# Altium schematic symbol library Button-Sensor.SchLib: 5 symbols
Pins are listed as number, name and electrical type; pins without a type are passive.

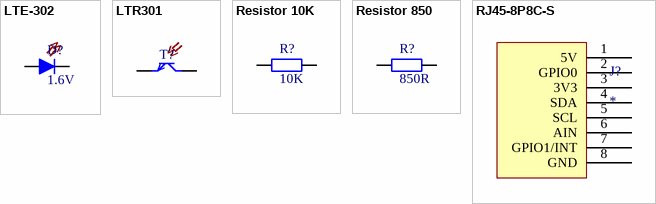
[diagram p0: symbols LTE-302 to RJ45-8P8C-S]

## LTE-302
designator D?, comment 1.6V
IR LED 940nm; Mouser no.: 859-LTE-302; V forward: 1.6V
footprint LTE302
pins: 1 A, 2 K

## LTR301
designator T?  (value not drawn)
Phototransistor 940nm; Mouser no.: 859-LTR-301
footprint LTR301; pin to pad 1>2 2>1
pins: 1 C, 2 E

## Resistor 10K
designator R?, comment 10K
Value: 10K
footprint RESC1608X06M (Chip Resistor, 2-Leads, Body 1,60x0,80mm, IPC Low Density)
pins: 1, 2

## Resistor 850
designator R?, comment 850R
Value: 850R
footprint RESC1608X06M (Chip Resistor, 2-Leads, Body 1,60x0,80mm, IPC Low Density)
pins: 1, 2

## RJ45-8P8C-S
designator J?
Datasheet: /Robotics%20Platform/Datasheets/Connectors/5721-8P8C-全塑有耳.pdf
footprint RJ45-8P8C
pins: 1 5V, 2 GPIO0, 3 3V3, 4 SDA, 5 SCL, 6 AIN, 7 GPIO1/INT, 8 GND